# EAGLE library part PROTON-C (library Controller)
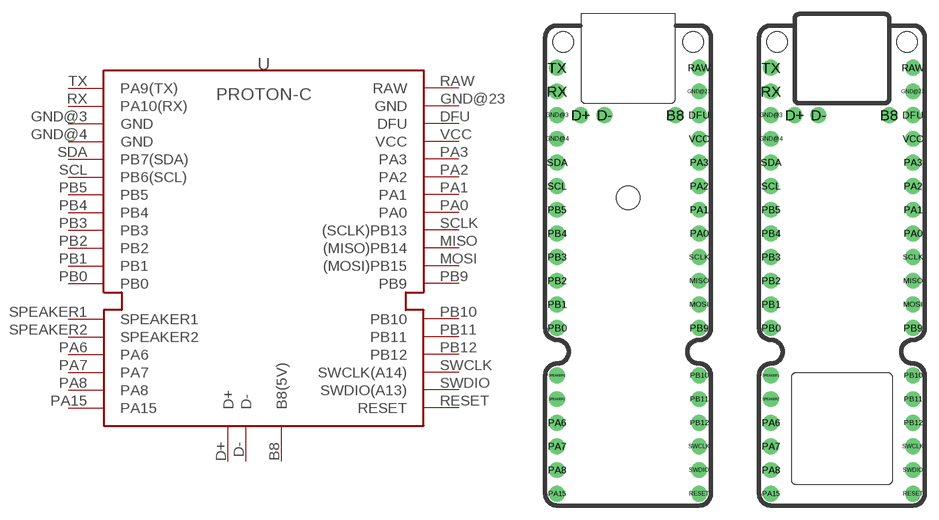
[diagram p33: symbol with the pads of PROTON-C-BOTTOM; footprints PROTON-C-BOTTOM, PROTON-C-TOP]

Designator prefix U

## PROTON-C-BOTTOM  [PROTON-C-BOTTOM]
B8  B8(5V)
D+  D+
D-  D-
DFU  DFU
GND@3  GND
GND@4  GND
GND@23  GND
MISO  (MISO)PB14
MOSI  (MOSI)PB15
PA0  PA0
PA1  PA1
PA2  PA2
PA3  PA3
PA6  PA6
PA7  PA7
PA8  PA8
PA15  PA15
PB0  PB0
PB1  PB1
PB2  PB2
PB3  PB3
PB4  PB4
PB5  PB5
PB9  PB9
PB10  PB10
PB11  PB11
PB12  PB12
RAW  RAW
RESET  RESET
RX  PA10(RX)
SCL  PB6(SCL)
SCLK  (SCLK)PB13
SDA  PB7(SDA)
SPEAKER1  SPEAKER1
SPEAKER2  SPEAKER2
SWCLK  SWCLK(A14)
SWDIO  SWDIO(A13)
TX  PA9(TX)
VCC  VCC

## PROTON-C-TOP  [PROTON-C-TOP]
Pads as for PROTON-C-BOTTOM

## PROTON-C  [PROTON-C-SIMPLE]
Pads as for PROTON-C-BOTTOM

## Footprint PROTON-C-BOTTOM (pad centres in mm)
Footprint for Proton-C when mounted top-up to the bottom of the board. This has holes cut out to accomodate the USB connector and to allow you to press the RESET button using a small tool. This will allow you to place the top side of the Proton-C towards the board and still have a low profile.
drill 0.9 pad 1.7: B8 5.08,8.89; D+ -5.08,8.89; D- -2.54,8.89; DFU 7.62,8.89; GND@3 -7.62,8.89; GND@4 -7.62,6.35; GND@23 7.62,11.43; MISO 7.62,-8.89; MOSI 7.62,-11.43; PA0 7.62,-3.81; PA1 7.62,-1.27; PA2 7.62,1.27; PA3 7.62,3.81; PA6 -7.62,-24.13; PA7 -7.62,-26.67; PA8 -7.62,-29.21; PA15 -7.62,-31.75; PB0 -7.62,-13.97; PB1 -7.62,-11.43; PB2 -7.62,-8.89; PB3 -7.62,-6.35; PB4 -7.62,-3.81; PB5 -7.62,-1.27; PB9 7.62,-13.97; PB10 7.62,-19.05; PB11 7.62,-21.59; PB12 7.62,-24.13; RAW 7.62,13.97; RESET 7.62,-31.75; RX -7.62,11.43; SCL -7.62,1.27; SCLK 7.62,-6.35; SDA -7.62,3.81; SPEAKER1 -7.62,-19.05; SPEAKER2 -7.62,-21.59; SWCLK 7.62,-26.67; SWDIO 7.62,-29.21; TX -7.62,13.97; VCC 7.62,6.35
hole 2.2 at -6.97,16.77
hole 2.2 at 6.97,16.77
hole 2.5 at 0,0

## Footprint PROTON-C-TOP (pad centres in mm)
Standard Proton-C Footprint. This allows you to mount the Proton-C on the top of a board. It has a cutout to allow the speaker to be heard.
drill 0.9 pad 1.7: B8 5.08,8.89; D+ -5.08,8.89; D- -2.54,8.89; DFU 7.62,8.89; GND@3 -7.62,8.89; GND@4 -7.62,6.35; GND@23 7.62,11.43; MISO 7.62,-8.89; MOSI 7.62,-11.43; PA0 7.62,-3.81; PA1 7.62,-1.27; PA2 7.62,1.27; PA3 7.62,3.81; PA6 -7.62,-24.13; PA7 -7.62,-26.67; PA8 -7.62,-29.21; PA15 -7.62,-31.75; PB0 -7.62,-13.97; PB1 -7.62,-11.43; PB2 -7.62,-8.89; PB3 -7.62,-6.35; PB4 -7.62,-3.81; PB5 -7.62,-1.27; PB9 7.62,-13.97; PB10 7.62,-19.05; PB11 7.62,-21.59; PB12 7.62,-24.13; RAW 7.62,13.97; RESET 7.62,-31.75; RX -7.62,11.43; SCL -7.62,1.27; SCLK 7.62,-6.35; SDA -7.62,3.81; SPEAKER1 -7.62,-19.05; SPEAKER2 -7.62,-21.59; SWCLK 7.62,-26.67; SWDIO 7.62,-29.21; TX -7.62,13.97; VCC 7.62,6.35
hole 2.2 at -6.97,16.77
hole 2.2 at 6.97,16.77

## Footprint PROTON-C-SIMPLE (pad centres in mm)
Simple Proton-C Footprint. This allows you to mount the Proton-C on the top of a board. It doesn't accomodate the speaker or the usb port at all.
drill 0.9 pad 1.7: B8 5.08,8.89; D+ -5.08,8.89; D- -2.54,8.89; DFU 7.62,8.89; GND@3 -7.62,8.89; GND@4 -7.62,6.35; GND@23 7.62,11.43; MISO 7.62,-8.89; MOSI 7.62,-11.43; PA0 7.62,-3.81; PA1 7.62,-1.27; PA2 7.62,1.27; PA3 7.62,3.81; PA6 -7.62,-24.13; PA7 -7.62,-26.67; PA8 -7.62,-29.21; PA15 -7.62,-31.75; PB0 -7.62,-13.97; PB1 -7.62,-11.43; PB2 -7.62,-8.89; PB3 -7.62,-6.35; PB4 -7.62,-3.81; PB5 -7.62,-1.27; PB9 7.62,-13.97; PB10 7.62,-19.05; PB11 7.62,-21.59; PB12 7.62,-24.13; RAW 7.62,13.97; RESET 7.62,-31.75; RX -7.62,11.43; SCL -7.62,1.27; SCLK 7.62,-6.35; SDA -7.62,3.81; SPEAKER1 -7.62,-19.05; SPEAKER2 -7.62,-21.59; SWCLK 7.62,-26.67; SWDIO 7.62,-29.21; TX -7.62,13.97; VCC 7.62,6.35
hole 2.2 at -6.97,16.77
hole 2.2 at 6.97,16.77